# Altium footprint library SnapEDApcb.PcbLib: 1 footprints
Each footprint in its own frame and in the unit in brackets; x right, y up, seen from the top. Pads: shape width x height; smd on the part's side, far side on the other; paste and mask are expansions set on the pad; w line width, h text height; cw(c..) or ccw(c..) is an arc to the next point about the centre after c.
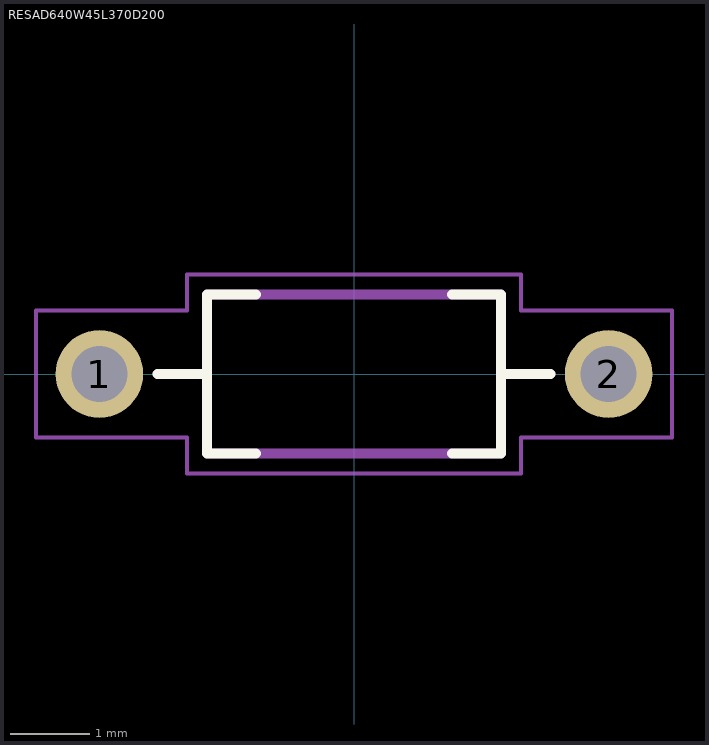
[diagram p0: the footprint, top view; thin cyan lines are the x and y axes]

## RESAD640W45L370D200 [mm]
pads (2):
  round 1.1 hole 0.7: 1(-3.2,0) 2(3.2,0)
Top Overlay:
  lines w0.127: -2.47,0 -1.85,0 ; -1.23,-1 -1.85,-1 -1.85,0 ; -1.23,1 -1.85,1 -1.85,0 ; 1.23,-1 1.85,-1 1.85,0 ; 1.23,1 1.85,1 1.85,0 ; 2.47,0 1.85,0
Mechanical 13:
  lines w0.127: -2.47,0 -1.85,0 ; 2.47,0 1.85,0 ; -1.85,0 -1.85,-1 1.85,-1 1.85,0 ; -1.85,0 -1.85,1 1.85,1 1.85,0
Mechanical 15:
  lines w0.05: -4,-0.8 -4,0.8 -2.1,0.8 -2.1,1.25 2.1,1.25 2.1,0.8 4,0.8 4,-0.8 2.1,-0.8 2.1,-1.25 -2.1,-1.25 -2.1,-0.8 -4,-0.8
3D body "User Library-R-Axial-0_25W-7_62.step": height 1.2, standoff -5, extent 3.637,1.083 11.857,3.489